# EAGLE library part SSM2220_AARON (library aaronlibrary)
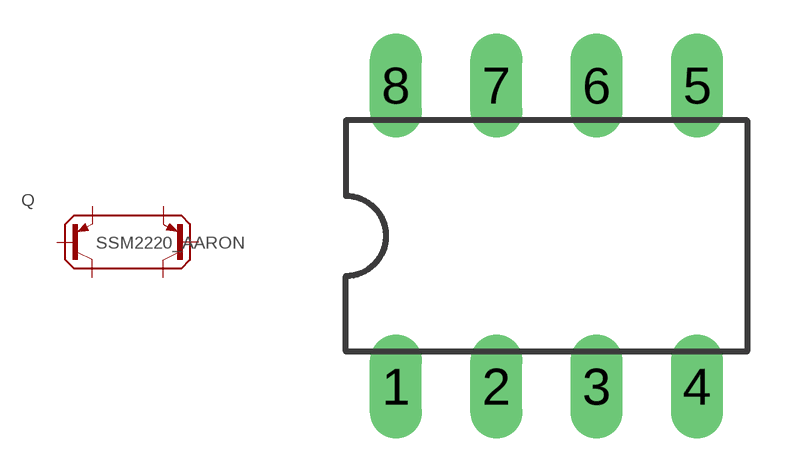
[diagram p1: symbol with the pads of SSM2220; footprint SSM2220]

Designator prefix Q

## SSM2220_AARON  [SSM2220]
1  C1  pas
2  B1  pas
3  E1  pas
6  E2  pas
7  B2  pas
8  C2  pas

## Footprint SSM2220 (pad centres in mm)
drill 0.813 long: 1 -3.81,-3.81; 2 -1.27,-3.81; 3 1.27,-3.81; 4 3.81,-3.81; 5 3.81,3.81; 6 1.27,3.81; 7 -1.27,3.81; 8 -3.81,3.81